# Altium footprint library Connector_PinHeader_2.00mm.PcbLib: 278 footprints (part 13 of 18)
Each footprint in its own frame and in the unit in brackets; x right, y up, seen from the top. Pads: shape width x height; smd on the part's side, far side on the other; paste and mask are expansions set on the pad; w line width, h text height; cw(c..) or ccw(c..) is an arc to the next point about the centre after c.
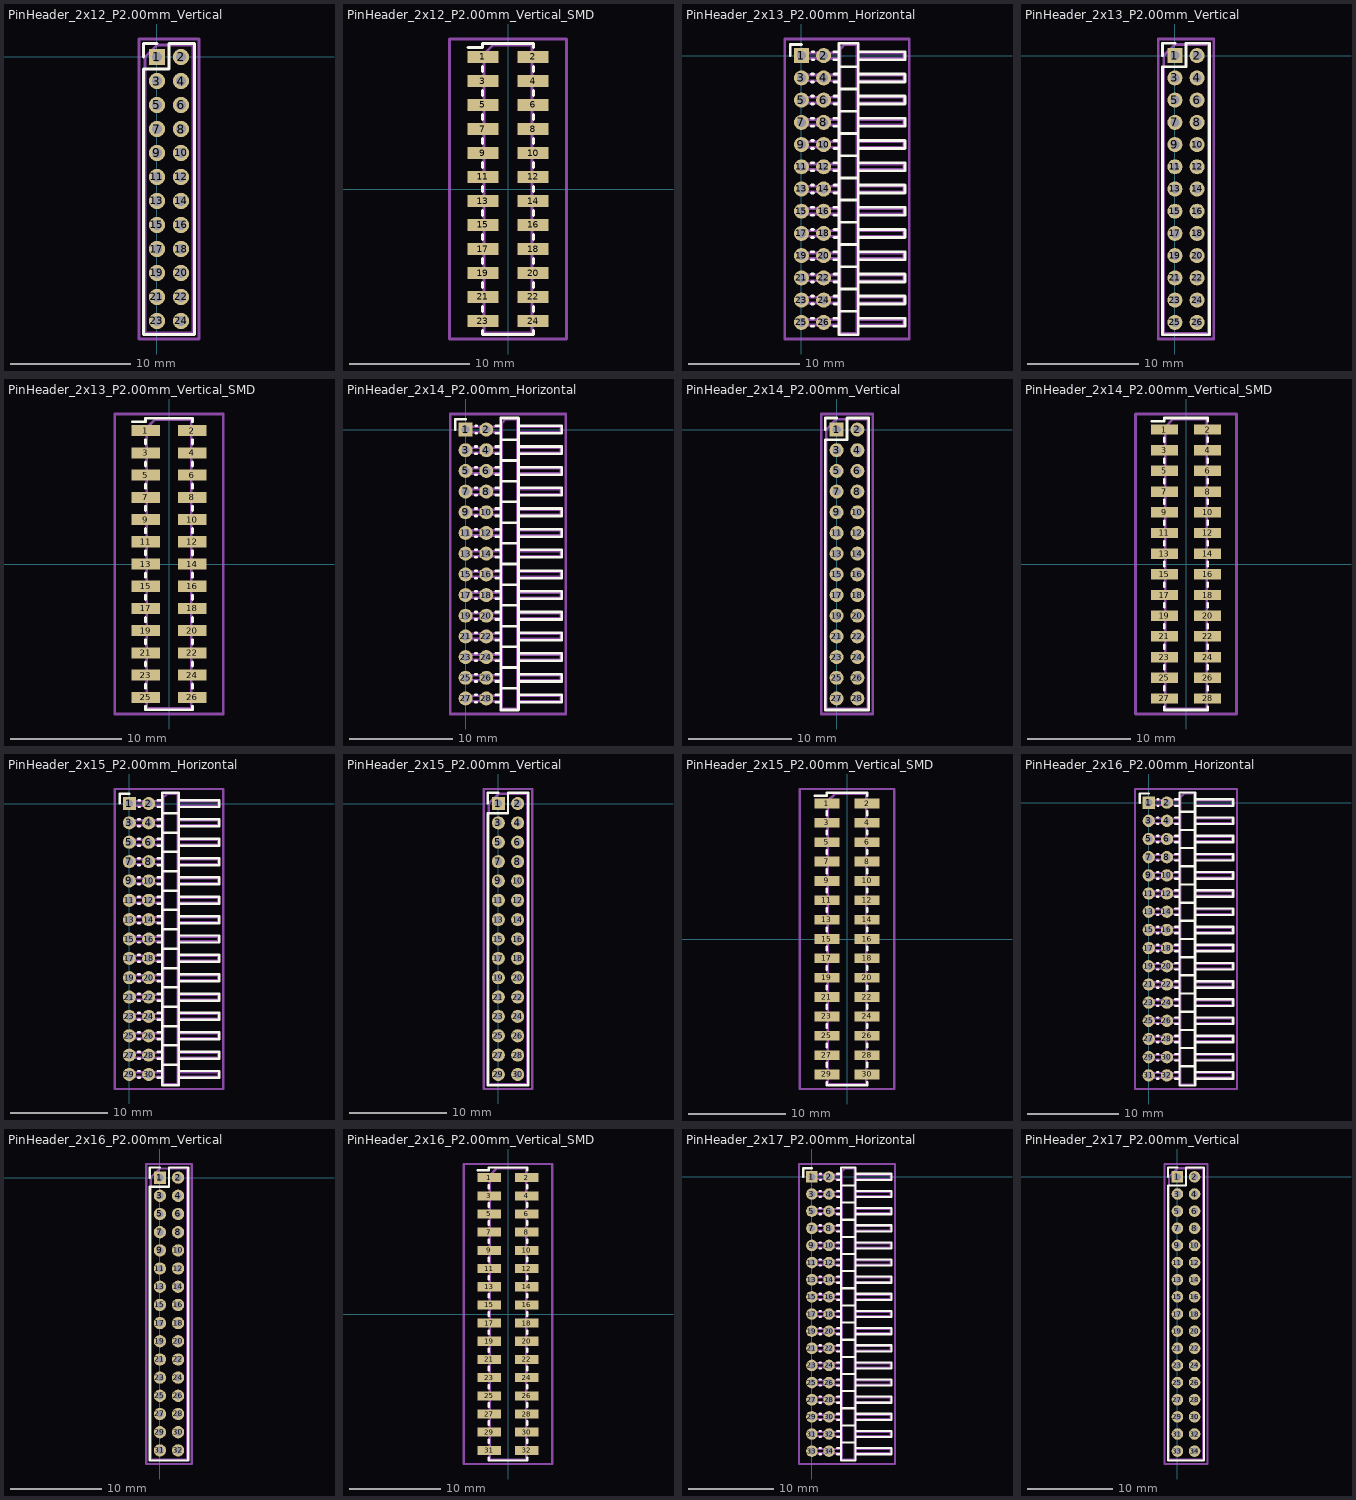
[diagram p12: the footprints below, top view; thin cyan lines are the x and y axes]

## PinHeader_2x12_P2.00mm_Vertical [mm]
pads (24):
  rect 1.35x1.35 hole 0.8: 1(0,0)
  round 1.35 hole 0.8: 2(2,0) 3(0,-2) 4(2,-2) 5(0,-4) 6(2,-4) 7(0,-6) 8(2,-6) 9(0,-8) 10(2,-8) 11(0,-10) 12(2,-10) 13(0,-12) 14(2,-12) 15(0,-14) 16(2,-14) 17(0,-16) 18(2,-16) 19(0,-18) 20(2,-18) 21(0,-20) 22(2,-20) 23(0,-22) 24(2,-22)
F.SilkS:
  lines w0.254: -1.11,0 -1.11,1.11 0,1.11 ; -1.11,-23.11 3.11,-23.11 3.11,1.11 1,1.11 1,-1 -1.11,-1 -1.11,-23.11
Top Assembly:
  lines w0.254: -1,-23 3,-23 3,1 0,1 -1,0 -1,-23
  text "'.Designator'" at 1.84,-15.047 h1
Top Courtyard:
  lines w0.254: -1.5,-23.5 3.5,-23.5 3.5,1.5 -1.5,1.5 -1.5,-23.5
Top Designator:
  text ".Designator" at -6.618,-11.508 h1.52

## PinHeader_2x12_P2.00mm_Vertical_SMD [mm]
pads (24):
  rect 2.58x1 smd: 1(-2.085,11) 2(2.085,11) 3(-2.085,9) 4(2.085,9) 5(-2.085,7) 6(2.085,7) 7(-2.085,5) 8(2.085,5) 9(-2.085,3) 10(2.085,3) 11(-2.085,1) 12(2.085,1) 13(-2.085,-1) 14(2.085,-1) 15(-2.085,-3) 16(2.085,-3) 17(-2.085,-5) 18(2.085,-5) 19(-2.085,-7) 20(2.085,-7) 21(-2.085,-9) 22(2.085,-9) 23(-2.085,-11) 24(2.085,-11)
F.SilkS:
  lines w0.254: -3.315,11.81 -2.11,11.81 -2.11,12.11 2.11,12.11 2.11,11.81 ; -2.11,-11.81 -2.11,-12.11 2.11,-12.11 2.11,-11.81 ; -2.11,-10.19 -2.11,-9.81 ; -2.11,-8.19 -2.11,-7.81 ; -2.11,-6.19 -2.11,-5.81 ; -2.11,-4.19 -2.11,-3.81 ; -2.11,-2.19 -2.11,-1.81 ; -2.11,-0.19 -2.11,0.19 ; -2.11,1.81 -2.11,2.19 ; -2.11,3.81 -2.11,4.19 ; -2.11,5.81 -2.11,6.19 ; -2.11,7.81 -2.11,8.19 ; -2.11,9.81 -2.11,10.19 ; 2.11,-10.19 2.11,-9.81 ; 2.11,-8.19 2.11,-7.81 ; 2.11,-6.19 2.11,-5.81 ; 2.11,-4.19 2.11,-3.81 ; 2.11,-2.19 2.11,-1.81 ; 2.11,-0.19 2.11,0.19 ; 2.11,1.81 2.11,2.19 ; 2.11,3.81 2.11,4.19 ; 2.11,5.81 2.11,6.19 ; 2.11,7.81 2.11,8.19 ; 2.11,9.81 2.11,10.19
Top Assembly:
  lines w0.254: -2,-11.25 -2.875,-11.25 -2.875,-10.75 -2,-10.75 ; -2,-9.25 -2.875,-9.25 -2.875,-8.75 -2,-8.75 ; -2,-7.25 -2.875,-7.25 -2.875,-6.75 -2,-6.75 ; -2,-5.25 -2.875,-5.25 -2.875,-4.75 -2,-4.75 ; -2,-3.25 -2.875,-3.25 -2.875,-2.75 -2,-2.75 ; -2,-1.25 -2.875,-1.25 -2.875,-0.75 -2,-0.75 ; -2,0.75 -2.875,0.75 -2.875,1.25 -2,1.25 ; -2,2.75 -2.875,2.75 -2.875,3.25 -2,3.25 ; -2,4.75 -2.875,4.75 -2.875,5.25 -2,5.25 ; -2,6.75 -2.875,6.75 -2.875,7.25 -2,7.25 ; -2,8.75 -2.875,8.75 -2.875,9.25 -2,9.25 ; -2,10.75 -2.875,10.75 -2.875,11.25 -2,11.25 ; 2,-11.25 2.875,-11.25 2.875,-10.75 2,-10.75 ; 2,-9.25 2.875,-9.25 2.875,-8.75 2,-8.75 ; 2,-7.25 2.875,-7.25 2.875,-6.75 2,-6.75 ; 2,-5.25 2.875,-5.25 2.875,-4.75 2,-4.75 ; 2,-3.25 2.875,-3.25 2.875,-2.75 2,-2.75 ; 2,-1.25 2.875,-1.25 2.875,-0.75 2,-0.75 ; 2,0.75 2.875,0.75 2.875,1.25 2,1.25 ; 2,2.75 2.875,2.75 2.875,3.25 2,3.25 ; 2,4.75 2.875,4.75 2.875,5.25 2,5.25 ; 2,6.75 2.875,6.75 2.875,7.25 2,7.25 ; 2,8.75 2.875,8.75 2.875,9.25 2,9.25 ; 2,10.75 2.875,10.75 2.875,11.25 2,11.25 ; -2,11.25 -2,-12 2,-12 2,12 -1.25,12 -2,11.25
  text "'.Designator'" at 0.84,-4.047 h1
Top Courtyard:
  lines w0.254: -4.88,-12.5 4.88,-12.5 4.88,12.5 -4.88,12.5 -4.88,-12.5
Top Designator:
  text ".Designator" at -7.618,-0.508 h1.52

## PinHeader_2x13_P2.00mm_Horizontal [mm]
pads (26):
  rect 1.35x1.35 hole 0.8: 1(0,0)
  round 1.35 hole 0.8: 2(2,0) 3(0,-2) 4(2,-2) 5(0,-4) 6(2,-4) 7(0,-6) 8(2,-6) 9(0,-8) 10(2,-8) 11(0,-10) 12(2,-10) 13(0,-12) 14(2,-12) 15(0,-14) 16(2,-14) 17(0,-16) 18(2,-16) 19(0,-18) 20(2,-18) 21(0,-20) 22(2,-20) 23(0,-22) 24(2,-22) 25(0,-24) 26(2,-24)
F.SilkS:
  lines w0.254: -1,0 -1,1 0,1 ; 0.917,-24.36 1.083,-24.36 ; 0.917,-23.64 1.083,-23.64 ; 0.917,-22.36 1.083,-22.36 ; 0.917,-21.64 1.083,-21.64 ; 0.917,-20.36 1.083,-20.36 ; 0.917,-19.64 1.083,-19.64 ; 0.917,-18.36 1.083,-18.36 ; 0.917,-17.64 1.083,-17.64 ; 0.917,-16.36 1.083,-16.36 ; 0.917,-15.64 1.083,-15.64 ; 0.917,-14.36 1.083,-14.36 ; 0.917,-13.64 1.083,-13.64 ; 0.917,-12.36 1.083,-12.36 ; 0.917,-11.64 1.083,-11.64 ; 0.917,-10.36 1.083,-10.36 ; 0.917,-9.64 1.083,-9.64 ; 0.917,-8.36 1.083,-8.36 ; 0.917,-7.64 1.083,-7.64 ; 0.917,-6.36 1.083,-6.36 ; 0.917,-5.64 1.083,-5.64 ; 0.917,-4.36 1.083,-4.36 ; 0.917,-3.64 1.083,-3.64 ; 0.917,-2.36 1.083,-2.36 ; 0.917,-1.64 1.083,-1.64 ; 0.985,-0.36 1.083,-0.36 ; 0.985,0.36 1.083,0.36 ; 2.917,-24.36 3.39,-24.36 ; 2.917,-23.64 3.39,-23.64 ; 2.917,-22.36 3.39,-22.36 ; 2.917,-21.64 3.39,-21.64 ; 2.917,-20.36 3.39,-20.36 ; 2.917,-19.64 3.39,-19.64 ; 2.917,-18.36 3.39,-18.36 ; 2.917,-17.64 3.39,-17.64 ; 2.917,-16.36 3.39,-16.36 ; 2.917,-15.64 3.39,-15.64 ; 2.917,-14.36 3.39,-14.36 ; 2.917,-13.64 3.39,-13.64 ; 2.917,-12.36 3.39,-12.36 ; 2.917,-11.64 3.39,-11.64 ; 2.917,-10.36 3.39,-10.36 ; 2.917,-9.64 3.39,-9.64 ; 2.917,-8.36 3.39,-8.36 ; 2.917,-7.64 3.39,-7.64 ; 2.917,-6.36 3.39,-6.36 ; 2.917,-5.64 3.39,-5.64 ; 2.917,-4.36 3.39,-4.36 ; 2.917,-3.64 3.39,-3.64 ; 2.917,-2.36 3.39,-2.36 ; 2.917,-1.64 3.39,-1.64 ; 2.917,-0.36 3.39,-0.36 ; 2.917,0.36 3.39,0.36 ; 3.39,-23 5.11,-23 ; 3.39,-21 5.11,-21 ; 3.39,-19 5.11,-19 ; 3.39,-17 5.11,-17 ; 3.39,-15 5.11,-15 ; 3.39,-13 5.11,-13 ; 3.39,-11 5.11,-11 ; 3.39,-9 5.11,-9 ; 3.39,-7 5.11,-7 ; 3.39,-5 5.11,-5 ; 3.39,-3 5.11,-3 ; 3.39,-1 5.11,-1 ; 5.11,-24.36 9.31,-24.36 9.31,-23.64 5.11,-23.64 ; 5.11,-22.36 9.31,-22.36 9.31,-21.64 5.11,-21.64 ; 5.11,-20.36 9.31,-20.36 9.31,-19.64 5.11,-19.64 ; 5.11,-18.36 9.31,-18.36 9.31,-17.64 5.11,-17.64 ; 5.11,-16.36 9.31,-16.36 9.31,-15.64 5.11,-15.64 ; 5.11,-14.36 9.31,-14.36 9.31,-13.64 5.11,-13.64 ; 5.11,-12.36 9.31,-12.36 9.31,-11.64 5.11,-11.64 ; 5.11,-10.36 9.31,-10.36 9.31,-9.64 5.11,-9.64 ; 5.11,-8.36 9.31,-8.36 9.31,-7.64 5.11,-7.64 ; 5.11,-6.36 9.31,-6.36 9.31,-5.64 5.11,-5.64 ; 5.11,-4.36 9.31,-4.36 9.31,-3.64 5.11,-3.64 ; 5.11,-2.36 9.31,-2.36 9.31,-1.64 5.11,-1.64 ; 3.39,-25.11 5.11,-25.11 5.11,1.11 3.39,1.11 3.39,-25.11 ; 5.11,-0.36 9.31,-0.36 9.31,0.36 5.11,0.36 5.11,-0.36
Top Assembly:
  lines w0.254: 3.5,-24.25 -0.25,-24.25 -0.25,-23.75 3.5,-23.75 ; 3.5,-22.25 -0.25,-22.25 -0.25,-21.75 3.5,-21.75 ; 3.5,-20.25 -0.25,-20.25 -0.25,-19.75 3.5,-19.75 ; 3.5,-18.25 -0.25,-18.25 -0.25,-17.75 3.5,-17.75 ; 3.5,-16.25 -0.25,-16.25 -0.25,-15.75 3.5,-15.75 ; 3.5,-14.25 -0.25,-14.25 -0.25,-13.75 3.5,-13.75 ; 3.5,-12.25 -0.25,-12.25 -0.25,-11.75 3.5,-11.75 ; 3.5,-10.25 -0.25,-10.25 -0.25,-9.75 3.5,-9.75 ; 3.5,-8.25 -0.25,-8.25 -0.25,-7.75 3.5,-7.75 ; 3.5,-6.25 -0.25,-6.25 -0.25,-5.75 3.5,-5.75 ; 3.5,-4.25 -0.25,-4.25 -0.25,-3.75 3.5,-3.75 ; 3.5,-2.25 -0.25,-2.25 -0.25,-1.75 3.5,-1.75 ; 3.5,-0.25 -0.25,-0.25 -0.25,0.25 3.5,0.25 ; 5,-24.25 9.2,-24.25 9.2,-23.75 5,-23.75 ; 5,-22.25 9.2,-22.25 9.2,-21.75 5,-21.75 ; 5,-20.25 9.2,-20.25 9.2,-19.75 5,-19.75 ; 5,-18.25 9.2,-18.25 9.2,-17.75 5,-17.75 ; 5,-16.25 9.2,-16.25 9.2,-15.75 5,-15.75 ; 5,-14.25 9.2,-14.25 9.2,-13.75 5,-13.75 ; 5,-12.25 9.2,-12.25 9.2,-11.75 5,-11.75 ; 5,-10.25 9.2,-10.25 9.2,-9.75 5,-9.75 ; 5,-8.25 9.2,-8.25 9.2,-7.75 5,-7.75 ; 5,-6.25 9.2,-6.25 9.2,-5.75 5,-5.75 ; 5,-4.25 9.2,-4.25 9.2,-3.75 5,-3.75 ; 5,-2.25 9.2,-2.25 9.2,-1.75 5,-1.75 ; 5,-0.25 9.2,-0.25 9.2,0.25 5,0.25 ; 3.5,-25 5,-25 5,1 3.875,1 3.5,0.625 3.5,-25
  text "'.Designator'" at 5.006,-15.642 h0.9
Top Courtyard:
  lines w0.254: -1.5,-25.5 9.7,-25.5 9.7,1.5 -1.5,1.5 -1.5,-25.5
Top Designator:
  text ".Designator" at -3.518,-12.508 h1.52

## PinHeader_2x13_P2.00mm_Vertical [mm]
pads (26):
  rect 1.35x1.35 hole 0.8: 1(0,0)
  round 1.35 hole 0.8: 2(2,0) 3(0,-2) 4(2,-2) 5(0,-4) 6(2,-4) 7(0,-6) 8(2,-6) 9(0,-8) 10(2,-8) 11(0,-10) 12(2,-10) 13(0,-12) 14(2,-12) 15(0,-14) 16(2,-14) 17(0,-16) 18(2,-16) 19(0,-18) 20(2,-18) 21(0,-20) 22(2,-20) 23(0,-22) 24(2,-22) 25(0,-24) 26(2,-24)
F.SilkS:
  lines w0.254: -1.11,0 -1.11,1.11 0,1.11 ; -1.11,-25.11 3.11,-25.11 3.11,1.11 1,1.11 1,-1 -1.11,-1 -1.11,-25.11
Top Assembly:
  lines w0.254: -1,-25 3,-25 3,1 0,1 -1,0 -1,-25
  text "'.Designator'" at 1.84,-16.047 h1
Top Courtyard:
  lines w0.254: -1.5,-25.5 3.5,-25.5 3.5,1.5 -1.5,1.5 -1.5,-25.5
Top Designator:
  text ".Designator" at -6.618,-12.508 h1.52

## PinHeader_2x13_P2.00mm_Vertical_SMD [mm]
pads (26):
  rect 2.58x1 smd: 1(-2.085,12) 2(2.085,12) 3(-2.085,10) 4(2.085,10) 5(-2.085,8) 6(2.085,8) 7(-2.085,6) 8(2.085,6) 9(-2.085,4) 10(2.085,4) 11(-2.085,2) 12(2.085,2) 13(-2.085,0) 14(2.085,0) 15(-2.085,-2) 16(2.085,-2) 17(-2.085,-4) 18(2.085,-4) 19(-2.085,-6) 20(2.085,-6) 21(-2.085,-8) 22(2.085,-8) 23(-2.085,-10) 24(2.085,-10) 25(-2.085,-12) 26(2.085,-12)
F.SilkS:
  lines w0.254: -3.315,12.81 -2.11,12.81 -2.11,13.11 2.11,13.11 2.11,12.81 ; -2.11,-12.81 -2.11,-13.11 2.11,-13.11 2.11,-12.81 ; -2.11,-11.19 -2.11,-10.81 ; -2.11,-9.19 -2.11,-8.81 ; -2.11,-7.19 -2.11,-6.81 ; -2.11,-5.19 -2.11,-4.81 ; -2.11,-3.19 -2.11,-2.81 ; -2.11,-1.19 -2.11,-0.81 ; -2.11,0.81 -2.11,1.19 ; -2.11,2.81 -2.11,3.19 ; -2.11,4.81 -2.11,5.19 ; -2.11,6.81 -2.11,7.19 ; -2.11,8.81 -2.11,9.19 ; -2.11,10.81 -2.11,11.19 ; 2.11,-11.19 2.11,-10.81 ; 2.11,-9.19 2.11,-8.81 ; 2.11,-7.19 2.11,-6.81 ; 2.11,-5.19 2.11,-4.81 ; 2.11,-3.19 2.11,-2.81 ; 2.11,-1.19 2.11,-0.81 ; 2.11,0.81 2.11,1.19 ; 2.11,2.81 2.11,3.19 ; 2.11,4.81 2.11,5.19 ; 2.11,6.81 2.11,7.19 ; 2.11,8.81 2.11,9.19 ; 2.11,10.81 2.11,11.19
Top Assembly:
  lines w0.254: -2,-12.25 -2.875,-12.25 -2.875,-11.75 -2,-11.75 ; -2,-10.25 -2.875,-10.25 -2.875,-9.75 -2,-9.75 ; -2,-8.25 -2.875,-8.25 -2.875,-7.75 -2,-7.75 ; -2,-6.25 -2.875,-6.25 -2.875,-5.75 -2,-5.75 ; -2,-4.25 -2.875,-4.25 -2.875,-3.75 -2,-3.75 ; -2,-2.25 -2.875,-2.25 -2.875,-1.75 -2,-1.75 ; -2,-0.25 -2.875,-0.25 -2.875,0.25 -2,0.25 ; -2,1.75 -2.875,1.75 -2.875,2.25 -2,2.25 ; -2,3.75 -2.875,3.75 -2.875,4.25 -2,4.25 ; -2,5.75 -2.875,5.75 -2.875,6.25 -2,6.25 ; -2,7.75 -2.875,7.75 -2.875,8.25 -2,8.25 ; -2,9.75 -2.875,9.75 -2.875,10.25 -2,10.25 ; -2,11.75 -2.875,11.75 -2.875,12.25 -2,12.25 ; 2,-12.25 2.875,-12.25 2.875,-11.75 2,-11.75 ; 2,-10.25 2.875,-10.25 2.875,-9.75 2,-9.75 ; 2,-8.25 2.875,-8.25 2.875,-7.75 2,-7.75 ; 2,-6.25 2.875,-6.25 2.875,-5.75 2,-5.75 ; 2,-4.25 2.875,-4.25 2.875,-3.75 2,-3.75 ; 2,-2.25 2.875,-2.25 2.875,-1.75 2,-1.75 ; 2,-0.25 2.875,-0.25 2.875,0.25 2,0.25 ; 2,1.75 2.875,1.75 2.875,2.25 2,2.25 ; 2,3.75 2.875,3.75 2.875,4.25 2,4.25 ; 2,5.75 2.875,5.75 2.875,6.25 2,6.25 ; 2,7.75 2.875,7.75 2.875,8.25 2,8.25 ; 2,9.75 2.875,9.75 2.875,10.25 2,10.25 ; 2,11.75 2.875,11.75 2.875,12.25 2,12.25 ; -2,12.25 -2,-13 2,-13 2,13 -1.25,13 -2,12.25
  text "'.Designator'" at 0.84,-4.047 h1
Top Courtyard:
  lines w0.254: -4.88,-13.5 4.88,-13.5 4.88,13.5 -4.88,13.5 -4.88,-13.5
Top Designator:
  text ".Designator" at -7.618,-0.508 h1.52

## PinHeader_2x14_P2.00mm_Horizontal [mm]
pads (28):
  rect 1.35x1.35 hole 0.8: 1(0,0)
  round 1.35 hole 0.8: 2(2,0) 3(0,-2) 4(2,-2) 5(0,-4) 6(2,-4) 7(0,-6) 8(2,-6) 9(0,-8) 10(2,-8) 11(0,-10) 12(2,-10) 13(0,-12) 14(2,-12) 15(0,-14) 16(2,-14) 17(0,-16) 18(2,-16) 19(0,-18) 20(2,-18) 21(0,-20) 22(2,-20) 23(0,-22) 24(2,-22) 25(0,-24) 26(2,-24) 27(0,-26) 28(2,-26)
F.SilkS:
  lines w0.254: -1,0 -1,1 0,1 ; 0.917,-26.36 1.083,-26.36 ; 0.917,-25.64 1.083,-25.64 ; 0.917,-24.36 1.083,-24.36 ; 0.917,-23.64 1.083,-23.64 ; 0.917,-22.36 1.083,-22.36 ; 0.917,-21.64 1.083,-21.64 ; 0.917,-20.36 1.083,-20.36 ; 0.917,-19.64 1.083,-19.64 ; 0.917,-18.36 1.083,-18.36 ; 0.917,-17.64 1.083,-17.64 ; 0.917,-16.36 1.083,-16.36 ; 0.917,-15.64 1.083,-15.64 ; 0.917,-14.36 1.083,-14.36 ; 0.917,-13.64 1.083,-13.64 ; 0.917,-12.36 1.083,-12.36 ; 0.917,-11.64 1.083,-11.64 ; 0.917,-10.36 1.083,-10.36 ; 0.917,-9.64 1.083,-9.64 ; 0.917,-8.36 1.083,-8.36 ; 0.917,-7.64 1.083,-7.64 ; 0.917,-6.36 1.083,-6.36 ; 0.917,-5.64 1.083,-5.64 ; 0.917,-4.36 1.083,-4.36 ; 0.917,-3.64 1.083,-3.64 ; 0.917,-2.36 1.083,-2.36 ; 0.917,-1.64 1.083,-1.64 ; 0.985,-0.36 1.083,-0.36 ; 0.985,0.36 1.083,0.36 ; 2.917,-26.36 3.39,-26.36 ; 2.917,-25.64 3.39,-25.64 ; 2.917,-24.36 3.39,-24.36 ; 2.917,-23.64 3.39,-23.64 ; 2.917,-22.36 3.39,-22.36 ; 2.917,-21.64 3.39,-21.64 ; 2.917,-20.36 3.39,-20.36 ; 2.917,-19.64 3.39,-19.64 ; 2.917,-18.36 3.39,-18.36 ; 2.917,-17.64 3.39,-17.64 ; 2.917,-16.36 3.39,-16.36 ; 2.917,-15.64 3.39,-15.64 ; 2.917,-14.36 3.39,-14.36 ; 2.917,-13.64 3.39,-13.64 ; 2.917,-12.36 3.39,-12.36 ; 2.917,-11.64 3.39,-11.64 ; 2.917,-10.36 3.39,-10.36 ; 2.917,-9.64 3.39,-9.64 ; 2.917,-8.36 3.39,-8.36 ; 2.917,-7.64 3.39,-7.64 ; 2.917,-6.36 3.39,-6.36 ; 2.917,-5.64 3.39,-5.64 ; 2.917,-4.36 3.39,-4.36 ; 2.917,-3.64 3.39,-3.64 ; 2.917,-2.36 3.39,-2.36 ; 2.917,-1.64 3.39,-1.64 ; 2.917,-0.36 3.39,-0.36 ; 2.917,0.36 3.39,0.36 ; 3.39,-25 5.11,-25 ; 3.39,-23 5.11,-23 ; 3.39,-21 5.11,-21 ; 3.39,-19 5.11,-19 ; 3.39,-17 5.11,-17 ; 3.39,-15 5.11,-15 ; 3.39,-13 5.11,-13 ; 3.39,-11 5.11,-11 ; 3.39,-9 5.11,-9 ; 3.39,-7 5.11,-7 ; 3.39,-5 5.11,-5 ; 3.39,-3 5.11,-3 ; 3.39,-1 5.11,-1 ; 5.11,-26.36 9.31,-26.36 9.31,-25.64 5.11,-25.64 ; 5.11,-24.36 9.31,-24.36 9.31,-23.64 5.11,-23.64 ; 5.11,-22.36 9.31,-22.36 9.31,-21.64 5.11,-21.64 ; 5.11,-20.36 9.31,-20.36 9.31,-19.64 5.11,-19.64 ; 5.11,-18.36 9.31,-18.36 9.31,-17.64 5.11,-17.64 ; 5.11,-16.36 9.31,-16.36 9.31,-15.64 5.11,-15.64 ; 5.11,-14.36 9.31,-14.36 9.31,-13.64 5.11,-13.64 ; 5.11,-12.36 9.31,-12.36 9.31,-11.64 5.11,-11.64 ; 5.11,-10.36 9.31,-10.36 9.31,-9.64 5.11,-9.64 ; 5.11,-8.36 9.31,-8.36 9.31,-7.64 5.11,-7.64 ; 5.11,-6.36 9.31,-6.36 9.31,-5.64 5.11,-5.64 ; 5.11,-4.36 9.31,-4.36 9.31,-3.64 5.11,-3.64 ; 5.11,-2.36 9.31,-2.36 9.31,-1.64 5.11,-1.64 ; 3.39,-27.11 5.11,-27.11 5.11,1.11 3.39,1.11 3.39,-27.11 ; 5.11,-0.36 9.31,-0.36 9.31,0.36 5.11,0.36 5.11,-0.36
Top Assembly:
  lines w0.254: 3.5,-26.25 -0.25,-26.25 -0.25,-25.75 3.5,-25.75 ; 3.5,-24.25 -0.25,-24.25 -0.25,-23.75 3.5,-23.75 ; 3.5,-22.25 -0.25,-22.25 -0.25,-21.75 3.5,-21.75 ; 3.5,-20.25 -0.25,-20.25 -0.25,-19.75 3.5,-19.75 ; 3.5,-18.25 -0.25,-18.25 -0.25,-17.75 3.5,-17.75 ; 3.5,-16.25 -0.25,-16.25 -0.25,-15.75 3.5,-15.75 ; 3.5,-14.25 -0.25,-14.25 -0.25,-13.75 3.5,-13.75 ; 3.5,-12.25 -0.25,-12.25 -0.25,-11.75 3.5,-11.75 ; 3.5,-10.25 -0.25,-10.25 -0.25,-9.75 3.5,-9.75 ; 3.5,-8.25 -0.25,-8.25 -0.25,-7.75 3.5,-7.75 ; 3.5,-6.25 -0.25,-6.25 -0.25,-5.75 3.5,-5.75 ; 3.5,-4.25 -0.25,-4.25 -0.25,-3.75 3.5,-3.75 ; 3.5,-2.25 -0.25,-2.25 -0.25,-1.75 3.5,-1.75 ; 3.5,-0.25 -0.25,-0.25 -0.25,0.25 3.5,0.25 ; 5,-26.25 9.2,-26.25 9.2,-25.75 5,-25.75 ; 5,-24.25 9.2,-24.25 9.2,-23.75 5,-23.75 ; 5,-22.25 9.2,-22.25 9.2,-21.75 5,-21.75 ; 5,-20.25 9.2,-20.25 9.2,-19.75 5,-19.75 ; 5,-18.25 9.2,-18.25 9.2,-17.75 5,-17.75 ; 5,-16.25 9.2,-16.25 9.2,-15.75 5,-15.75 ; 5,-14.25 9.2,-14.25 9.2,-13.75 5,-13.75 ; 5,-12.25 9.2,-12.25 9.2,-11.75 5,-11.75 ; 5,-10.25 9.2,-10.25 9.2,-9.75 5,-9.75 ; 5,-8.25 9.2,-8.25 9.2,-7.75 5,-7.75 ; 5,-6.25 9.2,-6.25 9.2,-5.75 5,-5.75 ; 5,-4.25 9.2,-4.25 9.2,-3.75 5,-3.75 ; 5,-2.25 9.2,-2.25 9.2,-1.75 5,-1.75 ; 5,-0.25 9.2,-0.25 9.2,0.25 5,0.25 ; 3.5,-27 5,-27 5,1 3.875,1 3.5,0.625 3.5,-27
  text "'.Designator'" at 5.006,-16.642 h0.9
Top Courtyard:
  lines w0.254: -1.5,-27.5 9.7,-27.5 9.7,1.5 -1.5,1.5 -1.5,-27.5
Top Designator:
  text ".Designator" at -3.518,-13.508 h1.52

## PinHeader_2x14_P2.00mm_Vertical [mm]
pads (28):
  rect 1.35x1.35 hole 0.8: 1(0,0)
  round 1.35 hole 0.8: 2(2,0) 3(0,-2) 4(2,-2) 5(0,-4) 6(2,-4) 7(0,-6) 8(2,-6) 9(0,-8) 10(2,-8) 11(0,-10) 12(2,-10) 13(0,-12) 14(2,-12) 15(0,-14) 16(2,-14) 17(0,-16) 18(2,-16) 19(0,-18) 20(2,-18) 21(0,-20) 22(2,-20) 23(0,-22) 24(2,-22) 25(0,-24) 26(2,-24) 27(0,-26) 28(2,-26)
F.SilkS:
  lines w0.254: -1.11,0 -1.11,1.11 0,1.11 ; -1.11,-27.11 3.11,-27.11 3.11,1.11 1,1.11 1,-1 -1.11,-1 -1.11,-27.11
Top Assembly:
  lines w0.254: -1,-27 3,-27 3,1 0,1 -1,0 -1,-27
  text "'.Designator'" at 1.84,-17.047 h1
Top Courtyard:
  lines w0.254: -1.5,-27.5 3.5,-27.5 3.5,1.5 -1.5,1.5 -1.5,-27.5
Top Designator:
  text ".Designator" at -6.618,-13.508 h1.52

## PinHeader_2x14_P2.00mm_Vertical_SMD [mm]
pads (28):
  rect 2.58x1 smd: 1(-2.085,13) 2(2.085,13) 3(-2.085,11) 4(2.085,11) 5(-2.085,9) 6(2.085,9) 7(-2.085,7) 8(2.085,7) 9(-2.085,5) 10(2.085,5) 11(-2.085,3) 12(2.085,3) 13(-2.085,1) 14(2.085,1) 15(-2.085,-1) 16(2.085,-1) 17(-2.085,-3) 18(2.085,-3) 19(-2.085,-5) 20(2.085,-5) 21(-2.085,-7) 22(2.085,-7) 23(-2.085,-9) 24(2.085,-9) 25(-2.085,-11) 26(2.085,-11) 27(-2.085,-13) 28(2.085,-13)
F.SilkS:
  lines w0.254: -3.315,13.81 -2.11,13.81 -2.11,14.11 2.11,14.11 2.11,13.81 ; -2.11,-13.81 -2.11,-14.11 2.11,-14.11 2.11,-13.81 ; -2.11,-12.19 -2.11,-11.81 ; -2.11,-10.19 -2.11,-9.81 ; -2.11,-8.19 -2.11,-7.81 ; -2.11,-6.19 -2.11,-5.81 ; -2.11,-4.19 -2.11,-3.81 ; -2.11,-2.19 -2.11,-1.81 ; -2.11,-0.19 -2.11,0.19 ; -2.11,1.81 -2.11,2.19 ; -2.11,3.81 -2.11,4.19 ; -2.11,5.81 -2.11,6.19 ; -2.11,7.81 -2.11,8.19 ; -2.11,9.81 -2.11,10.19 ; -2.11,11.81 -2.11,12.19 ; 2.11,-12.19 2.11,-11.81 ; 2.11,-10.19 2.11,-9.81 ; 2.11,-8.19 2.11,-7.81 ; 2.11,-6.19 2.11,-5.81 ; 2.11,-4.19 2.11,-3.81 ; 2.11,-2.19 2.11,-1.81 ; 2.11,-0.19 2.11,0.19 ; 2.11,1.81 2.11,2.19 ; 2.11,3.81 2.11,4.19 ; 2.11,5.81 2.11,6.19 ; 2.11,7.81 2.11,8.19 ; 2.11,9.81 2.11,10.19 ; 2.11,11.81 2.11,12.19
Top Assembly:
  lines w0.254: -2,-13.25 -2.875,-13.25 -2.875,-12.75 -2,-12.75 ; -2,-11.25 -2.875,-11.25 -2.875,-10.75 -2,-10.75 ; -2,-9.25 -2.875,-9.25 -2.875,-8.75 -2,-8.75 ; -2,-7.25 -2.875,-7.25 -2.875,-6.75 -2,-6.75 ; -2,-5.25 -2.875,-5.25 -2.875,-4.75 -2,-4.75 ; -2,-3.25 -2.875,-3.25 -2.875,-2.75 -2,-2.75 ; -2,-1.25 -2.875,-1.25 -2.875,-0.75 -2,-0.75 ; -2,0.75 -2.875,0.75 -2.875,1.25 -2,1.25 ; -2,2.75 -2.875,2.75 -2.875,3.25 -2,3.25 ; -2,4.75 -2.875,4.75 -2.875,5.25 -2,5.25 ; -2,6.75 -2.875,6.75 -2.875,7.25 -2,7.25 ; -2,8.75 -2.875,8.75 -2.875,9.25 -2,9.25 ; -2,10.75 -2.875,10.75 -2.875,11.25 -2,11.25 ; -2,12.75 -2.875,12.75 -2.875,13.25 -2,13.25 ; 2,-13.25 2.875,-13.25 2.875,-12.75 2,-12.75 ; 2,-11.25 2.875,-11.25 2.875,-10.75 2,-10.75 ; 2,-9.25 2.875,-9.25 2.875,-8.75 2,-8.75 ; 2,-7.25 2.875,-7.25 2.875,-6.75 2,-6.75 ; 2,-5.25 2.875,-5.25 2.875,-4.75 2,-4.75 ; 2,-3.25 2.875,-3.25 2.875,-2.75 2,-2.75 ; 2,-1.25 2.875,-1.25 2.875,-0.75 2,-0.75 ; 2,0.75 2.875,0.75 2.875,1.25 2,1.25 ; 2,2.75 2.875,2.75 2.875,3.25 2,3.25 ; 2,4.75 2.875,4.75 2.875,5.25 2,5.25 ; 2,6.75 2.875,6.75 2.875,7.25 2,7.25 ; 2,8.75 2.875,8.75 2.875,9.25 2,9.25 ; 2,10.75 2.875,10.75 2.875,11.25 2,11.25 ; 2,12.75 2.875,12.75 2.875,13.25 2,13.25 ; -2,13.25 -2,-14 2,-14 2,14 -1.25,14 -2,13.25
  text "'.Designator'" at 0.84,-4.047 h1
Top Courtyard:
  lines w0.254: -4.88,-14.5 4.88,-14.5 4.88,14.5 -4.88,14.5 -4.88,-14.5
Top Designator:
  text ".Designator" at -7.618,-0.508 h1.52

## PinHeader_2x15_P2.00mm_Horizontal [mm]
pads (30):
  rect 1.35x1.35 hole 0.8: 1(0,0)
  round 1.35 hole 0.8: 2(2,0) 3(0,-2) 4(2,-2) 5(0,-4) 6(2,-4) 7(0,-6) 8(2,-6) 9(0,-8) 10(2,-8) 11(0,-10) 12(2,-10) 13(0,-12) 14(2,-12) 15(0,-14) 16(2,-14) 17(0,-16) 18(2,-16) 19(0,-18) 20(2,-18) 21(0,-20) 22(2,-20) 23(0,-22) 24(2,-22) 25(0,-24) 26(2,-24) 27(0,-26) 28(2,-26) 29(0,-28) 30(2,-28)
F.SilkS:
  lines w0.254: -1,0 -1,1 0,1 ; 0.917,-28.36 1.083,-28.36 ; 0.917,-27.64 1.083,-27.64 ; 0.917,-26.36 1.083,-26.36 ; 0.917,-25.64 1.083,-25.64 ; 0.917,-24.36 1.083,-24.36 ; 0.917,-23.64 1.083,-23.64 ; 0.917,-22.36 1.083,-22.36 ; 0.917,-21.64 1.083,-21.64 ; 0.917,-20.36 1.083,-20.36 ; 0.917,-19.64 1.083,-19.64 ; 0.917,-18.36 1.083,-18.36 ; 0.917,-17.64 1.083,-17.64 ; 0.917,-16.36 1.083,-16.36 ; 0.917,-15.64 1.083,-15.64 ; 0.917,-14.36 1.083,-14.36 ; 0.917,-13.64 1.083,-13.64 ; 0.917,-12.36 1.083,-12.36 ; 0.917,-11.64 1.083,-11.64 ; 0.917,-10.36 1.083,-10.36 ; 0.917,-9.64 1.083,-9.64 ; 0.917,-8.36 1.083,-8.36 ; 0.917,-7.64 1.083,-7.64 ; 0.917,-6.36 1.083,-6.36 ; 0.917,-5.64 1.083,-5.64 ; 0.917,-4.36 1.083,-4.36 ; 0.917,-3.64 1.083,-3.64 ; 0.917,-2.36 1.083,-2.36 ; 0.917,-1.64 1.083,-1.64 ; 0.985,-0.36 1.083,-0.36 ; 0.985,0.36 1.083,0.36 ; 2.917,-28.36 3.39,-28.36 ; 2.917,-27.64 3.39,-27.64 ; 2.917,-26.36 3.39,-26.36 ; 2.917,-25.64 3.39,-25.64 ; 2.917,-24.36 3.39,-24.36 ; 2.917,-23.64 3.39,-23.64 ; 2.917,-22.36 3.39,-22.36 ; 2.917,-21.64 3.39,-21.64 ; 2.917,-20.36 3.39,-20.36 ; 2.917,-19.64 3.39,-19.64 ; 2.917,-18.36 3.39,-18.36 ; 2.917,-17.64 3.39,-17.64 ; 2.917,-16.36 3.39,-16.36 ; 2.917,-15.64 3.39,-15.64 ; 2.917,-14.36 3.39,-14.36 ; 2.917,-13.64 3.39,-13.64 ; 2.917,-12.36 3.39,-12.36 ; 2.917,-11.64 3.39,-11.64 ; 2.917,-10.36 3.39,-10.36 ; 2.917,-9.64 3.39,-9.64 ; 2.917,-8.36 3.39,-8.36 ; 2.917,-7.64 3.39,-7.64 ; 2.917,-6.36 3.39,-6.36 ; 2.917,-5.64 3.39,-5.64 ; 2.917,-4.36 3.39,-4.36 ; 2.917,-3.64 3.39,-3.64 ; 2.917,-2.36 3.39,-2.36 ; 2.917,-1.64 3.39,-1.64 ; 2.917,-0.36 3.39,-0.36 ; 2.917,0.36 3.39,0.36 ; 3.39,-27 5.11,-27 ; 3.39,-25 5.11,-25 ; 3.39,-23 5.11,-23 ; 3.39,-21 5.11,-21 ; 3.39,-19 5.11,-19 ; 3.39,-17 5.11,-17 ; 3.39,-15 5.11,-15 ; 3.39,-13 5.11,-13 ; 3.39,-11 5.11,-11 ; 3.39,-9 5.11,-9 ; 3.39,-7 5.11,-7 ; 3.39,-5 5.11,-5 ; 3.39,-3 5.11,-3 ; 3.39,-1 5.11,-1 ; 5.11,-28.36 9.31,-28.36 9.31,-27.64 5.11,-27.64 ; 5.11,-26.36 9.31,-26.36 9.31,-25.64 5.11,-25.64 ; 5.11,-24.36 9.31,-24.36 9.31,-23.64 5.11,-23.64 ; 5.11,-22.36 9.31,-22.36 9.31,-21.64 5.11,-21.64 ; 5.11,-20.36 9.31,-20.36 9.31,-19.64 5.11,-19.64 ; 5.11,-18.36 9.31,-18.36 9.31,-17.64 5.11,-17.64 ; 5.11,-16.36 9.31,-16.36 9.31,-15.64 5.11,-15.64 ; 5.11,-14.36 9.31,-14.36 9.31,-13.64 5.11,-13.64 ; 5.11,-12.36 9.31,-12.36 9.31,-11.64 5.11,-11.64 ; 5.11,-10.36 9.31,-10.36 9.31,-9.64 5.11,-9.64 ; 5.11,-8.36 9.31,-8.36 9.31,-7.64 5.11,-7.64 ; 5.11,-6.36 9.31,-6.36 9.31,-5.64 5.11,-5.64 ; 5.11,-4.36 9.31,-4.36 9.31,-3.64 5.11,-3.64 ; 5.11,-2.36 9.31,-2.36 9.31,-1.64 5.11,-1.64 ; 3.39,-29.11 5.11,-29.11 5.11,1.11 3.39,1.11 3.39,-29.11 ; 5.11,-0.36 9.31,-0.36 9.31,0.36 5.11,0.36 5.11,-0.36
Top Assembly:
  lines w0.254: 3.5,-28.25 -0.25,-28.25 -0.25,-27.75 3.5,-27.75 ; 3.5,-26.25 -0.25,-26.25 -0.25,-25.75 3.5,-25.75 ; 3.5,-24.25 -0.25,-24.25 -0.25,-23.75 3.5,-23.75 ; 3.5,-22.25 -0.25,-22.25 -0.25,-21.75 3.5,-21.75 ; 3.5,-20.25 -0.25,-20.25 -0.25,-19.75 3.5,-19.75 ; 3.5,-18.25 -0.25,-18.25 -0.25,-17.75 3.5,-17.75 ; 3.5,-16.25 -0.25,-16.25 -0.25,-15.75 3.5,-15.75 ; 3.5,-14.25 -0.25,-14.25 -0.25,-13.75 3.5,-13.75 ; 3.5,-12.25 -0.25,-12.25 -0.25,-11.75 3.5,-11.75 ; 3.5,-10.25 -0.25,-10.25 -0.25,-9.75 3.5,-9.75 ; 3.5,-8.25 -0.25,-8.25 -0.25,-7.75 3.5,-7.75 ; 3.5,-6.25 -0.25,-6.25 -0.25,-5.75 3.5,-5.75 ; 3.5,-4.25 -0.25,-4.25 -0.25,-3.75 3.5,-3.75 ; 3.5,-2.25 -0.25,-2.25 -0.25,-1.75 3.5,-1.75 ; 3.5,-0.25 -0.25,-0.25 -0.25,0.25 3.5,0.25 ; 5,-28.25 9.2,-28.25 9.2,-27.75 5,-27.75 ; 5,-26.25 9.2,-26.25 9.2,-25.75 5,-25.75 ; 5,-24.25 9.2,-24.25 9.2,-23.75 5,-23.75 ; 5,-22.25 9.2,-22.25 9.2,-21.75 5,-21.75 ; 5,-20.25 9.2,-20.25 9.2,-19.75 5,-19.75 ; 5,-18.25 9.2,-18.25 9.2,-17.75 5,-17.75 ; 5,-16.25 9.2,-16.25 9.2,-15.75 5,-15.75 ; 5,-14.25 9.2,-14.25 9.2,-13.75 5,-13.75 ; 5,-12.25 9.2,-12.25 9.2,-11.75 5,-11.75 ; 5,-10.25 9.2,-10.25 9.2,-9.75 5,-9.75 ; 5,-8.25 9.2,-8.25 9.2,-7.75 5,-7.75 ; 5,-6.25 9.2,-6.25 9.2,-5.75 5,-5.75 ; 5,-4.25 9.2,-4.25 9.2,-3.75 5,-3.75 ; 5,-2.25 9.2,-2.25 9.2,-1.75 5,-1.75 ; 5,-0.25 9.2,-0.25 9.2,0.25 5,0.25 ; 3.5,-29 5,-29 5,1 3.875,1 3.5,0.625 3.5,-29
  text "'.Designator'" at 5.006,-17.642 h0.9
Top Courtyard:
  lines w0.254: -1.5,-29.5 9.7,-29.5 9.7,1.5 -1.5,1.5 -1.5,-29.5
Top Designator:
  text ".Designator" at -3.518,-14.508 h1.52

## PinHeader_2x15_P2.00mm_Vertical [mm]
pads (30):
  rect 1.35x1.35 hole 0.8: 1(0,0)
  round 1.35 hole 0.8: 2(2,0) 3(0,-2) 4(2,-2) 5(0,-4) 6(2,-4) 7(0,-6) 8(2,-6) 9(0,-8) 10(2,-8) 11(0,-10) 12(2,-10) 13(0,-12) 14(2,-12) 15(0,-14) 16(2,-14) 17(0,-16) 18(2,-16) 19(0,-18) 20(2,-18) 21(0,-20) 22(2,-20) 23(0,-22) 24(2,-22) 25(0,-24) 26(2,-24) 27(0,-26) 28(2,-26) 29(0,-28) 30(2,-28)
F.SilkS:
  lines w0.254: -1.11,0 -1.11,1.11 0,1.11 ; -1.11,-29.11 3.11,-29.11 3.11,1.11 1,1.11 1,-1 -1.11,-1 -1.11,-29.11
Top Assembly:
  lines w0.254: -1,-29 3,-29 3,1 0,1 -1,0 -1,-29
  text "'.Designator'" at 1.84,-18.047 h1
Top Courtyard:
  lines w0.254: -1.5,-29.5 3.5,-29.5 3.5,1.5 -1.5,1.5 -1.5,-29.5
Top Designator:
  text ".Designator" at -6.618,-14.508 h1.52

## PinHeader_2x15_P2.00mm_Vertical_SMD [mm]
pads (30):
  rect 2.58x1 smd: 1(-2.085,14) 2(2.085,14) 3(-2.085,12) 4(2.085,12) 5(-2.085,10) 6(2.085,10) 7(-2.085,8) 8(2.085,8) 9(-2.085,6) 10(2.085,6) 11(-2.085,4) 12(2.085,4) 13(-2.085,2) 14(2.085,2) 15(-2.085,0) 16(2.085,0) 17(-2.085,-2) 18(2.085,-2) 19(-2.085,-4) 20(2.085,-4) 21(-2.085,-6) 22(2.085,-6) 23(-2.085,-8) 24(2.085,-8) 25(-2.085,-10) 26(2.085,-10) 27(-2.085,-12) 28(2.085,-12) 29(-2.085,-14) 30(2.085,-14)
F.SilkS:
  lines w0.254: -3.315,14.81 -2.11,14.81 -2.11,15.11 2.11,15.11 2.11,14.81 ; -2.11,-14.81 -2.11,-15.11 2.11,-15.11 2.11,-14.81 ; -2.11,-13.19 -2.11,-12.81 ; -2.11,-11.19 -2.11,-10.81 ; -2.11,-9.19 -2.11,-8.81 ; -2.11,-7.19 -2.11,-6.81 ; -2.11,-5.19 -2.11,-4.81 ; -2.11,-3.19 -2.11,-2.81 ; -2.11,-1.19 -2.11,-0.81 ; -2.11,0.81 -2.11,1.19 ; -2.11,2.81 -2.11,3.19 ; -2.11,4.81 -2.11,5.19 ; -2.11,6.81 -2.11,7.19 ; -2.11,8.81 -2.11,9.19 ; -2.11,10.81 -2.11,11.19 ; -2.11,12.81 -2.11,13.19 ; 2.11,-13.19 2.11,-12.81 ; 2.11,-11.19 2.11,-10.81 ; 2.11,-9.19 2.11,-8.81 ; 2.11,-7.19 2.11,-6.81 ; 2.11,-5.19 2.11,-4.81 ; 2.11,-3.19 2.11,-2.81 ; 2.11,-1.19 2.11,-0.81 ; 2.11,0.81 2.11,1.19 ; 2.11,2.81 2.11,3.19 ; 2.11,4.81 2.11,5.19 ; 2.11,6.81 2.11,7.19 ; 2.11,8.81 2.11,9.19 ; 2.11,10.81 2.11,11.19 ; 2.11,12.81 2.11,13.19
Top Assembly:
  lines w0.254: -2,-14.25 -2.875,-14.25 -2.875,-13.75 -2,-13.75 ; -2,-12.25 -2.875,-12.25 -2.875,-11.75 -2,-11.75 ; -2,-10.25 -2.875,-10.25 -2.875,-9.75 -2,-9.75 ; -2,-8.25 -2.875,-8.25 -2.875,-7.75 -2,-7.75 ; -2,-6.25 -2.875,-6.25 -2.875,-5.75 -2,-5.75 ; -2,-4.25 -2.875,-4.25 -2.875,-3.75 -2,-3.75 ; -2,-2.25 -2.875,-2.25 -2.875,-1.75 -2,-1.75 ; -2,-0.25 -2.875,-0.25 -2.875,0.25 -2,0.25 ; -2,1.75 -2.875,1.75 -2.875,2.25 -2,2.25 ; -2,3.75 -2.875,3.75 -2.875,4.25 -2,4.25 ; -2,5.75 -2.875,5.75 -2.875,6.25 -2,6.25 ; -2,7.75 -2.875,7.75 -2.875,8.25 -2,8.25 ; -2,9.75 -2.875,9.75 -2.875,10.25 -2,10.25 ; -2,11.75 -2.875,11.75 -2.875,12.25 -2,12.25 ; -2,13.75 -2.875,13.75 -2.875,14.25 -2,14.25 ; 2,-14.25 2.875,-14.25 2.875,-13.75 2,-13.75 ; 2,-12.25 2.875,-12.25 2.875,-11.75 2,-11.75 ; 2,-10.25 2.875,-10.25 2.875,-9.75 2,-9.75 ; 2,-8.25 2.875,-8.25 2.875,-7.75 2,-7.75 ; 2,-6.25 2.875,-6.25 2.875,-5.75 2,-5.75 ; 2,-4.25 2.875,-4.25 2.875,-3.75 2,-3.75 ; 2,-2.25 2.875,-2.25 2.875,-1.75 2,-1.75 ; 2,-0.25 2.875,-0.25 2.875,0.25 2,0.25 ; 2,1.75 2.875,1.75 2.875,2.25 2,2.25 ; 2,3.75 2.875,3.75 2.875,4.25 2,4.25 ; 2,5.75 2.875,5.75 2.875,6.25 2,6.25 ; 2,7.75 2.875,7.75 2.875,8.25 2,8.25 ; 2,9.75 2.875,9.75 2.875,10.25 2,10.25 ; 2,11.75 2.875,11.75 2.875,12.25 2,12.25 ; 2,13.75 2.875,13.75 2.875,14.25 2,14.25 ; -2,14.25 -2,-15 2,-15 2,15 -1.25,15 -2,14.25
  text "'.Designator'" at 0.84,-4.047 h1
Top Courtyard:
  lines w0.254: -4.88,-15.5 4.88,-15.5 4.88,15.5 -4.88,15.5 -4.88,-15.5
Top Designator:
  text ".Designator" at -7.618,-0.508 h1.52

## PinHeader_2x16_P2.00mm_Horizontal [mm]
pads (32):
  rect 1.35x1.35 hole 0.8: 1(0,0)
  round 1.35 hole 0.8: 2(2,0) 3(0,-2) 4(2,-2) 5(0,-4) 6(2,-4) 7(0,-6) 8(2,-6) 9(0,-8) 10(2,-8) 11(0,-10) 12(2,-10) 13(0,-12) 14(2,-12) 15(0,-14) 16(2,-14) 17(0,-16) 18(2,-16) 19(0,-18) 20(2,-18) 21(0,-20) 22(2,-20) 23(0,-22) 24(2,-22) 25(0,-24) 26(2,-24) 27(0,-26) 28(2,-26) 29(0,-28) 30(2,-28) 31(0,-30) 32(2,-30)
F.SilkS:
  lines w0.254: -1,0 -1,1 0,1 ; 0.917,-30.36 1.083,-30.36 ; 0.917,-29.64 1.083,-29.64 ; 0.917,-28.36 1.083,-28.36 ; 0.917,-27.64 1.083,-27.64 ; 0.917,-26.36 1.083,-26.36 ; 0.917,-25.64 1.083,-25.64 ; 0.917,-24.36 1.083,-24.36 ; 0.917,-23.64 1.083,-23.64 ; 0.917,-22.36 1.083,-22.36 ; 0.917,-21.64 1.083,-21.64 ; 0.917,-20.36 1.083,-20.36 ; 0.917,-19.64 1.083,-19.64 ; 0.917,-18.36 1.083,-18.36 ; 0.917,-17.64 1.083,-17.64 ; 0.917,-16.36 1.083,-16.36 ; 0.917,-15.64 1.083,-15.64 ; 0.917,-14.36 1.083,-14.36 ; 0.917,-13.64 1.083,-13.64 ; 0.917,-12.36 1.083,-12.36 ; 0.917,-11.64 1.083,-11.64 ; 0.917,-10.36 1.083,-10.36 ; 0.917,-9.64 1.083,-9.64 ; 0.917,-8.36 1.083,-8.36 ; 0.917,-7.64 1.083,-7.64 ; 0.917,-6.36 1.083,-6.36 ; 0.917,-5.64 1.083,-5.64 ; 0.917,-4.36 1.083,-4.36 ; 0.917,-3.64 1.083,-3.64 ; 0.917,-2.36 1.083,-2.36 ; 0.917,-1.64 1.083,-1.64 ; 0.985,-0.36 1.083,-0.36 ; 0.985,0.36 1.083,0.36 ; 2.917,-30.36 3.39,-30.36 ; 2.917,-29.64 3.39,-29.64 ; 2.917,-28.36 3.39,-28.36 ; 2.917,-27.64 3.39,-27.64 ; 2.917,-26.36 3.39,-26.36 ; 2.917,-25.64 3.39,-25.64 ; 2.917,-24.36 3.39,-24.36 ; 2.917,-23.64 3.39,-23.64 ; 2.917,-22.36 3.39,-22.36 ; 2.917,-21.64 3.39,-21.64 ; 2.917,-20.36 3.39,-20.36 ; 2.917,-19.64 3.39,-19.64 ; 2.917,-18.36 3.39,-18.36 ; 2.917,-17.64 3.39,-17.64 ; 2.917,-16.36 3.39,-16.36 ; 2.917,-15.64 3.39,-15.64 ; 2.917,-14.36 3.39,-14.36 ; 2.917,-13.64 3.39,-13.64 ; 2.917,-12.36 3.39,-12.36 ; 2.917,-11.64 3.39,-11.64 ; 2.917,-10.36 3.39,-10.36 ; 2.917,-9.64 3.39,-9.64 ; 2.917,-8.36 3.39,-8.36 ; 2.917,-7.64 3.39,-7.64 ; 2.917,-6.36 3.39,-6.36 ; 2.917,-5.64 3.39,-5.64 ; 2.917,-4.36 3.39,-4.36 ; 2.917,-3.64 3.39,-3.64 ; 2.917,-2.36 3.39,-2.36 ; 2.917,-1.64 3.39,-1.64 ; 2.917,-0.36 3.39,-0.36 ; 2.917,0.36 3.39,0.36 ; 3.39,-29 5.11,-29 ; 3.39,-27 5.11,-27 ; 3.39,-25 5.11,-25 ; 3.39,-23 5.11,-23 ; 3.39,-21 5.11,-21 ; 3.39,-19 5.11,-19 ; 3.39,-17 5.11,-17 ; 3.39,-15 5.11,-15 ; 3.39,-13 5.11,-13 ; 3.39,-11 5.11,-11 ; 3.39,-9 5.11,-9 ; 3.39,-7 5.11,-7 ; 3.39,-5 5.11,-5 ; 3.39,-3 5.11,-3 ; 3.39,-1 5.11,-1 ; 5.11,-30.36 9.31,-30.36 9.31,-29.64 5.11,-29.64 ; 5.11,-28.36 9.31,-28.36 9.31,-27.64 5.11,-27.64 ; 5.11,-26.36 9.31,-26.36 9.31,-25.64 5.11,-25.64 ; 5.11,-24.36 9.31,-24.36 9.31,-23.64 5.11,-23.64 ; 5.11,-22.36 9.31,-22.36 9.31,-21.64 5.11,-21.64 ; 5.11,-20.36 9.31,-20.36 9.31,-19.64 5.11,-19.64 ; 5.11,-18.36 9.31,-18.36 9.31,-17.64 5.11,-17.64 ; 5.11,-16.36 9.31,-16.36 9.31,-15.64 5.11,-15.64 ; 5.11,-14.36 9.31,-14.36 9.31,-13.64 5.11,-13.64 ; 5.11,-12.36 9.31,-12.36 9.31,-11.64 5.11,-11.64 ; 5.11,-10.36 9.31,-10.36 9.31,-9.64 5.11,-9.64 ; 5.11,-8.36 9.31,-8.36 9.31,-7.64 5.11,-7.64 ; 5.11,-6.36 9.31,-6.36 9.31,-5.64 5.11,-5.64 ; 5.11,-4.36 9.31,-4.36 9.31,-3.64 5.11,-3.64 ; 5.11,-2.36 9.31,-2.36 9.31,-1.64 5.11,-1.64 ; 3.39,-31.11 5.11,-31.11 5.11,1.11 3.39,1.11 3.39,-31.11 ; 5.11,-0.36 9.31,-0.36 9.31,0.36 5.11,0.36 5.11,-0.36
Top Assembly:
  lines w0.254: 3.5,-30.25 -0.25,-30.25 -0.25,-29.75 3.5,-29.75 ; 3.5,-28.25 -0.25,-28.25 -0.25,-27.75 3.5,-27.75 ; 3.5,-26.25 -0.25,-26.25 -0.25,-25.75 3.5,-25.75 ; 3.5,-24.25 -0.25,-24.25 -0.25,-23.75 3.5,-23.75 ; 3.5,-22.25 -0.25,-22.25 -0.25,-21.75 3.5,-21.75 ; 3.5,-20.25 -0.25,-20.25 -0.25,-19.75 3.5,-19.75 ; 3.5,-18.25 -0.25,-18.25 -0.25,-17.75 3.5,-17.75 ; 3.5,-16.25 -0.25,-16.25 -0.25,-15.75 3.5,-15.75 ; 3.5,-14.25 -0.25,-14.25 -0.25,-13.75 3.5,-13.75 ; 3.5,-12.25 -0.25,-12.25 -0.25,-11.75 3.5,-11.75 ; 3.5,-10.25 -0.25,-10.25 -0.25,-9.75 3.5,-9.75 ; 3.5,-8.25 -0.25,-8.25 -0.25,-7.75 3.5,-7.75 ; 3.5,-6.25 -0.25,-6.25 -0.25,-5.75 3.5,-5.75 ; 3.5,-4.25 -0.25,-4.25 -0.25,-3.75 3.5,-3.75 ; 3.5,-2.25 -0.25,-2.25 -0.25,-1.75 3.5,-1.75 ; 3.5,-0.25 -0.25,-0.25 -0.25,0.25 3.5,0.25 ; 5,-30.25 9.2,-30.25 9.2,-29.75 5,-29.75 ; 5,-28.25 9.2,-28.25 9.2,-27.75 5,-27.75 ; 5,-26.25 9.2,-26.25 9.2,-25.75 5,-25.75 ; 5,-24.25 9.2,-24.25 9.2,-23.75 5,-23.75 ; 5,-22.25 9.2,-22.25 9.2,-21.75 5,-21.75 ; 5,-20.25 9.2,-20.25 9.2,-19.75 5,-19.75 ; 5,-18.25 9.2,-18.25 9.2,-17.75 5,-17.75 ; 5,-16.25 9.2,-16.25 9.2,-15.75 5,-15.75 ; 5,-14.25 9.2,-14.25 9.2,-13.75 5,-13.75 ; 5,-12.25 9.2,-12.25 9.2,-11.75 5,-11.75 ; 5,-10.25 9.2,-10.25 9.2,-9.75 5,-9.75 ; 5,-8.25 9.2,-8.25 9.2,-7.75 5,-7.75 ; 5,-6.25 9.2,-6.25 9.2,-5.75 5,-5.75 ; 5,-4.25 9.2,-4.25 9.2,-3.75 5,-3.75 ; 5,-2.25 9.2,-2.25 9.2,-1.75 5,-1.75 ; 5,-0.25 9.2,-0.25 9.2,0.25 5,0.25 ; 3.5,-31 5,-31 5,1 3.875,1 3.5,0.625 3.5,-31
  text "'.Designator'" at 5.006,-18.642 h0.9
Top Courtyard:
  lines w0.254: -1.5,-31.5 9.7,-31.5 9.7,1.5 -1.5,1.5 -1.5,-31.5
Top Designator:
  text ".Designator" at -3.518,-15.508 h1.52

## PinHeader_2x16_P2.00mm_Vertical [mm]
pads (32):
  rect 1.35x1.35 hole 0.8: 1(0,0)
  round 1.35 hole 0.8: 2(2,0) 3(0,-2) 4(2,-2) 5(0,-4) 6(2,-4) 7(0,-6) 8(2,-6) 9(0,-8) 10(2,-8) 11(0,-10) 12(2,-10) 13(0,-12) 14(2,-12) 15(0,-14) 16(2,-14) 17(0,-16) 18(2,-16) 19(0,-18) 20(2,-18) 21(0,-20) 22(2,-20) 23(0,-22) 24(2,-22) 25(0,-24) 26(2,-24) 27(0,-26) 28(2,-26) 29(0,-28) 30(2,-28) 31(0,-30) 32(2,-30)
F.SilkS:
  lines w0.254: -1.11,0 -1.11,1.11 0,1.11 ; -1.11,-31.11 3.11,-31.11 3.11,1.11 1,1.11 1,-1 -1.11,-1 -1.11,-31.11
Top Assembly:
  lines w0.254: -1,-31 3,-31 3,1 0,1 -1,0 -1,-31
  text "'.Designator'" at 1.84,-19.047 h1
Top Courtyard:
  lines w0.254: -1.5,-31.5 3.5,-31.5 3.5,1.5 -1.5,1.5 -1.5,-31.5
Top Designator:
  text ".Designator" at -6.618,-15.508 h1.52

## PinHeader_2x16_P2.00mm_Vertical_SMD [mm]
pads (32):
  rect 2.58x1 smd: 1(-2.085,15) 2(2.085,15) 3(-2.085,13) 4(2.085,13) 5(-2.085,11) 6(2.085,11) 7(-2.085,9) 8(2.085,9) 9(-2.085,7) 10(2.085,7) 11(-2.085,5) 12(2.085,5) 13(-2.085,3) 14(2.085,3) 15(-2.085,1) 16(2.085,1) 17(-2.085,-1) 18(2.085,-1) 19(-2.085,-3) 20(2.085,-3) 21(-2.085,-5) 22(2.085,-5) 23(-2.085,-7) 24(2.085,-7) 25(-2.085,-9) 26(2.085,-9) 27(-2.085,-11) 28(2.085,-11) 29(-2.085,-13) 30(2.085,-13) 31(-2.085,-15) 32(2.085,-15)
F.SilkS:
  lines w0.254: -3.315,15.81 -2.11,15.81 -2.11,16.11 2.11,16.11 2.11,15.81 ; -2.11,-15.81 -2.11,-16.11 2.11,-16.11 2.11,-15.81 ; -2.11,-14.19 -2.11,-13.81 ; -2.11,-12.19 -2.11,-11.81 ; -2.11,-10.19 -2.11,-9.81 ; -2.11,-8.19 -2.11,-7.81 ; -2.11,-6.19 -2.11,-5.81 ; -2.11,-4.19 -2.11,-3.81 ; -2.11,-2.19 -2.11,-1.81 ; -2.11,-0.19 -2.11,0.19 ; -2.11,1.81 -2.11,2.19 ; -2.11,3.81 -2.11,4.19 ; -2.11,5.81 -2.11,6.19 ; -2.11,7.81 -2.11,8.19 ; -2.11,9.81 -2.11,10.19 ; -2.11,11.81 -2.11,12.19 ; -2.11,13.81 -2.11,14.19 ; 2.11,-14.19 2.11,-13.81 ; 2.11,-12.19 2.11,-11.81 ; 2.11,-10.19 2.11,-9.81 ; 2.11,-8.19 2.11,-7.81 ; 2.11,-6.19 2.11,-5.81 ; 2.11,-4.19 2.11,-3.81 ; 2.11,-2.19 2.11,-1.81 ; 2.11,-0.19 2.11,0.19 ; 2.11,1.81 2.11,2.19 ; 2.11,3.81 2.11,4.19 ; 2.11,5.81 2.11,6.19 ; 2.11,7.81 2.11,8.19 ; 2.11,9.81 2.11,10.19 ; 2.11,11.81 2.11,12.19 ; 2.11,13.81 2.11,14.19
Top Assembly:
  lines w0.254: -2,-15.25 -2.875,-15.25 -2.875,-14.75 -2,-14.75 ; -2,-13.25 -2.875,-13.25 -2.875,-12.75 -2,-12.75 ; -2,-11.25 -2.875,-11.25 -2.875,-10.75 -2,-10.75 ; -2,-9.25 -2.875,-9.25 -2.875,-8.75 -2,-8.75 ; -2,-7.25 -2.875,-7.25 -2.875,-6.75 -2,-6.75 ; -2,-5.25 -2.875,-5.25 -2.875,-4.75 -2,-4.75 ; -2,-3.25 -2.875,-3.25 -2.875,-2.75 -2,-2.75 ; -2,-1.25 -2.875,-1.25 -2.875,-0.75 -2,-0.75 ; -2,0.75 -2.875,0.75 -2.875,1.25 -2,1.25 ; -2,2.75 -2.875,2.75 -2.875,3.25 -2,3.25 ; -2,4.75 -2.875,4.75 -2.875,5.25 -2,5.25 ; -2,6.75 -2.875,6.75 -2.875,7.25 -2,7.25 ; -2,8.75 -2.875,8.75 -2.875,9.25 -2,9.25 ; -2,10.75 -2.875,10.75 -2.875,11.25 -2,11.25 ; -2,12.75 -2.875,12.75 -2.875,13.25 -2,13.25 ; -2,14.75 -2.875,14.75 -2.875,15.25 -2,15.25 ; 2,-15.25 2.875,-15.25 2.875,-14.75 2,-14.75 ; 2,-13.25 2.875,-13.25 2.875,-12.75 2,-12.75 ; 2,-11.25 2.875,-11.25 2.875,-10.75 2,-10.75 ; 2,-9.25 2.875,-9.25 2.875,-8.75 2,-8.75 ; 2,-7.25 2.875,-7.25 2.875,-6.75 2,-6.75 ; 2,-5.25 2.875,-5.25 2.875,-4.75 2,-4.75 ; 2,-3.25 2.875,-3.25 2.875,-2.75 2,-2.75 ; 2,-1.25 2.875,-1.25 2.875,-0.75 2,-0.75 ; 2,0.75 2.875,0.75 2.875,1.25 2,1.25 ; 2,2.75 2.875,2.75 2.875,3.25 2,3.25 ; 2,4.75 2.875,4.75 2.875,5.25 2,5.25 ; 2,6.75 2.875,6.75 2.875,7.25 2,7.25 ; 2,8.75 2.875,8.75 2.875,9.25 2,9.25 ; 2,10.75 2.875,10.75 2.875,11.25 2,11.25 ; 2,12.75 2.875,12.75 2.875,13.25 2,13.25 ; 2,14.75 2.875,14.75 2.875,15.25 2,15.25 ; -2,15.25 -2,-16 2,-16 2,16 -1.25,16 -2,15.25
  text "'.Designator'" at 0.84,-4.047 h1
Top Courtyard:
  lines w0.254: -4.88,-16.5 4.88,-16.5 4.88,16.5 -4.88,16.5 -4.88,-16.5
Top Designator:
  text ".Designator" at -7.618,-0.508 h1.52

## PinHeader_2x17_P2.00mm_Horizontal [mm]
pads (34):
  rect 1.35x1.35 hole 0.8: 1(0,0)
  round 1.35 hole 0.8: 2(2,0) 3(0,-2) 4(2,-2) 5(0,-4) 6(2,-4) 7(0,-6) 8(2,-6) 9(0,-8) 10(2,-8) 11(0,-10) 12(2,-10) 13(0,-12) 14(2,-12) 15(0,-14) 16(2,-14) 17(0,-16) 18(2,-16) 19(0,-18) 20(2,-18) 21(0,-20) 22(2,-20) 23(0,-22) 24(2,-22) 25(0,-24) 26(2,-24) 27(0,-26) 28(2,-26) 29(0,-28) 30(2,-28) 31(0,-30) 32(2,-30) 33(0,-32) 34(2,-32)
F.SilkS:
  lines w0.254: -1,0 -1,1 0,1 ; 0.917,-32.36 1.083,-32.36 ; 0.917,-31.64 1.083,-31.64 ; 0.917,-30.36 1.083,-30.36 ; 0.917,-29.64 1.083,-29.64 ; 0.917,-28.36 1.083,-28.36 ; 0.917,-27.64 1.083,-27.64 ; 0.917,-26.36 1.083,-26.36 ; 0.917,-25.64 1.083,-25.64 ; 0.917,-24.36 1.083,-24.36 ; 0.917,-23.64 1.083,-23.64 ; 0.917,-22.36 1.083,-22.36 ; 0.917,-21.64 1.083,-21.64 ; 0.917,-20.36 1.083,-20.36 ; 0.917,-19.64 1.083,-19.64 ; 0.917,-18.36 1.083,-18.36 ; 0.917,-17.64 1.083,-17.64 ; 0.917,-16.36 1.083,-16.36 ; 0.917,-15.64 1.083,-15.64 ; 0.917,-14.36 1.083,-14.36 ; 0.917,-13.64 1.083,-13.64 ; 0.917,-12.36 1.083,-12.36 ; 0.917,-11.64 1.083,-11.64 ; 0.917,-10.36 1.083,-10.36 ; 0.917,-9.64 1.083,-9.64 ; 0.917,-8.36 1.083,-8.36 ; 0.917,-7.64 1.083,-7.64 ; 0.917,-6.36 1.083,-6.36 ; 0.917,-5.64 1.083,-5.64 ; 0.917,-4.36 1.083,-4.36 ; 0.917,-3.64 1.083,-3.64 ; 0.917,-2.36 1.083,-2.36 ; 0.917,-1.64 1.083,-1.64 ; 0.985,-0.36 1.083,-0.36 ; 0.985,0.36 1.083,0.36 ; 2.917,-32.36 3.39,-32.36 ; 2.917,-31.64 3.39,-31.64 ; 2.917,-30.36 3.39,-30.36 ; 2.917,-29.64 3.39,-29.64 ; 2.917,-28.36 3.39,-28.36 ; 2.917,-27.64 3.39,-27.64 ; 2.917,-26.36 3.39,-26.36 ; 2.917,-25.64 3.39,-25.64 ; 2.917,-24.36 3.39,-24.36 ; 2.917,-23.64 3.39,-23.64 ; 2.917,-22.36 3.39,-22.36 ; 2.917,-21.64 3.39,-21.64 ; 2.917,-20.36 3.39,-20.36 ; 2.917,-19.64 3.39,-19.64 ; 2.917,-18.36 3.39,-18.36 ; 2.917,-17.64 3.39,-17.64 ; 2.917,-16.36 3.39,-16.36 ; 2.917,-15.64 3.39,-15.64 ; 2.917,-14.36 3.39,-14.36 ; 2.917,-13.64 3.39,-13.64 ; 2.917,-12.36 3.39,-12.36 ; 2.917,-11.64 3.39,-11.64 ; 2.917,-10.36 3.39,-10.36 ; 2.917,-9.64 3.39,-9.64 ; 2.917,-8.36 3.39,-8.36 ; 2.917,-7.64 3.39,-7.64 ; 2.917,-6.36 3.39,-6.36 ; 2.917,-5.64 3.39,-5.64 ; 2.917,-4.36 3.39,-4.36 ; 2.917,-3.64 3.39,-3.64 ; 2.917,-2.36 3.39,-2.36 ; 2.917,-1.64 3.39,-1.64 ; 2.917,-0.36 3.39,-0.36 ; 2.917,0.36 3.39,0.36 ; 3.39,-31 5.11,-31 ; 3.39,-29 5.11,-29 ; 3.39,-27 5.11,-27 ; 3.39,-25 5.11,-25 ; 3.39,-23 5.11,-23 ; 3.39,-21 5.11,-21 ; 3.39,-19 5.11,-19 ; 3.39,-17 5.11,-17 ; 3.39,-15 5.11,-15 ; 3.39,-13 5.11,-13 ; 3.39,-11 5.11,-11 ; 3.39,-9 5.11,-9 ; 3.39,-7 5.11,-7 ; 3.39,-5 5.11,-5 ; 3.39,-3 5.11,-3 ; 3.39,-1 5.11,-1 ; 5.11,-32.36 9.31,-32.36 9.31,-31.64 5.11,-31.64 ; 5.11,-30.36 9.31,-30.36 9.31,-29.64 5.11,-29.64 ; 5.11,-28.36 9.31,-28.36 9.31,-27.64 5.11,-27.64 ; 5.11,-26.36 9.31,-26.36 9.31,-25.64 5.11,-25.64 ; 5.11,-24.36 9.31,-24.36 9.31,-23.64 5.11,-23.64 ; 5.11,-22.36 9.31,-22.36 9.31,-21.64 5.11,-21.64 ; 5.11,-20.36 9.31,-20.36 9.31,-19.64 5.11,-19.64 ; 5.11,-18.36 9.31,-18.36 9.31,-17.64 5.11,-17.64 ; 5.11,-16.36 9.31,-16.36 9.31,-15.64 5.11,-15.64 ; 5.11,-14.36 9.31,-14.36 9.31,-13.64 5.11,-13.64 ; 5.11,-12.36 9.31,-12.36 9.31,-11.64 5.11,-11.64 ; 5.11,-10.36 9.31,-10.36 9.31,-9.64 5.11,-9.64 ; 5.11,-8.36 9.31,-8.36 9.31,-7.64 5.11,-7.64 ; 5.11,-6.36 9.31,-6.36 9.31,-5.64 5.11,-5.64 ; 5.11,-4.36 9.31,-4.36 9.31,-3.64 5.11,-3.64 ; 5.11,-2.36 9.31,-2.36 9.31,-1.64 5.11,-1.64 ; 3.39,-33.11 5.11,-33.11 5.11,1.11 3.39,1.11 3.39,-33.11 ; 5.11,-0.36 9.31,-0.36 9.31,0.36 5.11,0.36 5.11,-0.36
Top Assembly:
  lines w0.254: 3.5,-32.25 -0.25,-32.25 -0.25,-31.75 3.5,-31.75 ; 3.5,-30.25 -0.25,-30.25 -0.25,-29.75 3.5,-29.75 ; 3.5,-28.25 -0.25,-28.25 -0.25,-27.75 3.5,-27.75 ; 3.5,-26.25 -0.25,-26.25 -0.25,-25.75 3.5,-25.75 ; 3.5,-24.25 -0.25,-24.25 -0.25,-23.75 3.5,-23.75 ; 3.5,-22.25 -0.25,-22.25 -0.25,-21.75 3.5,-21.75 ; 3.5,-20.25 -0.25,-20.25 -0.25,-19.75 3.5,-19.75 ; 3.5,-18.25 -0.25,-18.25 -0.25,-17.75 3.5,-17.75 ; 3.5,-16.25 -0.25,-16.25 -0.25,-15.75 3.5,-15.75 ; 3.5,-14.25 -0.25,-14.25 -0.25,-13.75 3.5,-13.75 ; 3.5,-12.25 -0.25,-12.25 -0.25,-11.75 3.5,-11.75 ; 3.5,-10.25 -0.25,-10.25 -0.25,-9.75 3.5,-9.75 ; 3.5,-8.25 -0.25,-8.25 -0.25,-7.75 3.5,-7.75 ; 3.5,-6.25 -0.25,-6.25 -0.25,-5.75 3.5,-5.75 ; 3.5,-4.25 -0.25,-4.25 -0.25,-3.75 3.5,-3.75 ; 3.5,-2.25 -0.25,-2.25 -0.25,-1.75 3.5,-1.75 ; 3.5,-0.25 -0.25,-0.25 -0.25,0.25 3.5,0.25 ; 5,-32.25 9.2,-32.25 9.2,-31.75 5,-31.75 ; 5,-30.25 9.2,-30.25 9.2,-29.75 5,-29.75 ; 5,-28.25 9.2,-28.25 9.2,-27.75 5,-27.75 ; 5,-26.25 9.2,-26.25 9.2,-25.75 5,-25.75 ; 5,-24.25 9.2,-24.25 9.2,-23.75 5,-23.75 ; 5,-22.25 9.2,-22.25 9.2,-21.75 5,-21.75 ; 5,-20.25 9.2,-20.25 9.2,-19.75 5,-19.75 ; 5,-18.25 9.2,-18.25 9.2,-17.75 5,-17.75 ; 5,-16.25 9.2,-16.25 9.2,-15.75 5,-15.75 ; 5,-14.25 9.2,-14.25 9.2,-13.75 5,-13.75 ; 5,-12.25 9.2,-12.25 9.2,-11.75 5,-11.75 ; 5,-10.25 9.2,-10.25 9.2,-9.75 5,-9.75 ; 5,-8.25 9.2,-8.25 9.2,-7.75 5,-7.75 ; 5,-6.25 9.2,-6.25 9.2,-5.75 5,-5.75 ; 5,-4.25 9.2,-4.25 9.2,-3.75 5,-3.75 ; 5,-2.25 9.2,-2.25 9.2,-1.75 5,-1.75 ; 5,-0.25 9.2,-0.25 9.2,0.25 5,0.25 ; 3.5,-33 5,-33 5,1 3.875,1 3.5,0.625 3.5,-33
  text "'.Designator'" at 5.006,-19.642 h0.9
Top Courtyard:
  lines w0.254: -1.5,-33.5 9.7,-33.5 9.7,1.5 -1.5,1.5 -1.5,-33.5
Top Designator:
  text ".Designator" at -3.518,-16.508 h1.52

## PinHeader_2x17_P2.00mm_Vertical [mm]
pads (34):
  rect 1.35x1.35 hole 0.8: 1(0,0)
  round 1.35 hole 0.8: 2(2,0) 3(0,-2) 4(2,-2) 5(0,-4) 6(2,-4) 7(0,-6) 8(2,-6) 9(0,-8) 10(2,-8) 11(0,-10) 12(2,-10) 13(0,-12) 14(2,-12) 15(0,-14) 16(2,-14) 17(0,-16) 18(2,-16) 19(0,-18) 20(2,-18) 21(0,-20) 22(2,-20) 23(0,-22) 24(2,-22) 25(0,-24) 26(2,-24) 27(0,-26) 28(2,-26) 29(0,-28) 30(2,-28) 31(0,-30) 32(2,-30) 33(0,-32) 34(2,-32)
F.SilkS:
  lines w0.254: -1.11,0 -1.11,1.11 0,1.11 ; -1.11,-33.11 3.11,-33.11 3.11,1.11 1,1.11 1,-1 -1.11,-1 -1.11,-33.11
Top Assembly:
  lines w0.254: -1,-33 3,-33 3,1 0,1 -1,0 -1,-33
  text "'.Designator'" at 1.84,-20.047 h1
Top Courtyard:
  lines w0.254: -1.5,-33.5 3.5,-33.5 3.5,1.5 -1.5,1.5 -1.5,-33.5
Top Designator:
  text ".Designator" at -6.618,-16.508 h1.52